# Altium schematic symbol library MSASE168BB5106MTNA01.SchLib: 1 symbol
Pins are listed as number, name and electrical type; pins without a type are passive.

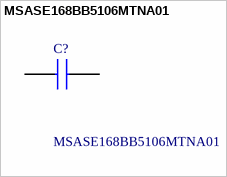
[diagram p0: symbol MSASE168BB5106MTNA01]

## MSASE168BB5106MTNA01
designator C?
Multilayer Ceramic Capacitors MLCC - SMD/SMT 16V 10uF X5R 0603 20 %; Manufacturer_Name: TAIYO YUDEN; Geometry.Height: 1mm; Mouser Part Number: 963-MSASE168BB5106MT; Mouser Price/Stock: https://www.mouser.co.uk/ProductDetail/TAIYO-YUDEN/MSASE168BB5106MTNA01?qs=tlsG%2FOw5FFg%2FYXoPWzAEwQ%3D%3D; Manufacturer_Part_Number: MSASE168BB5106MTNA01; Datasheet Link: *
footprint CAPC1709X100N
pins: 1, 2